# Altium schematic symbol library NeoObscura.SchLib: 11 symbols
Pins are listed as number, name and electrical type; pins without a type are passive.

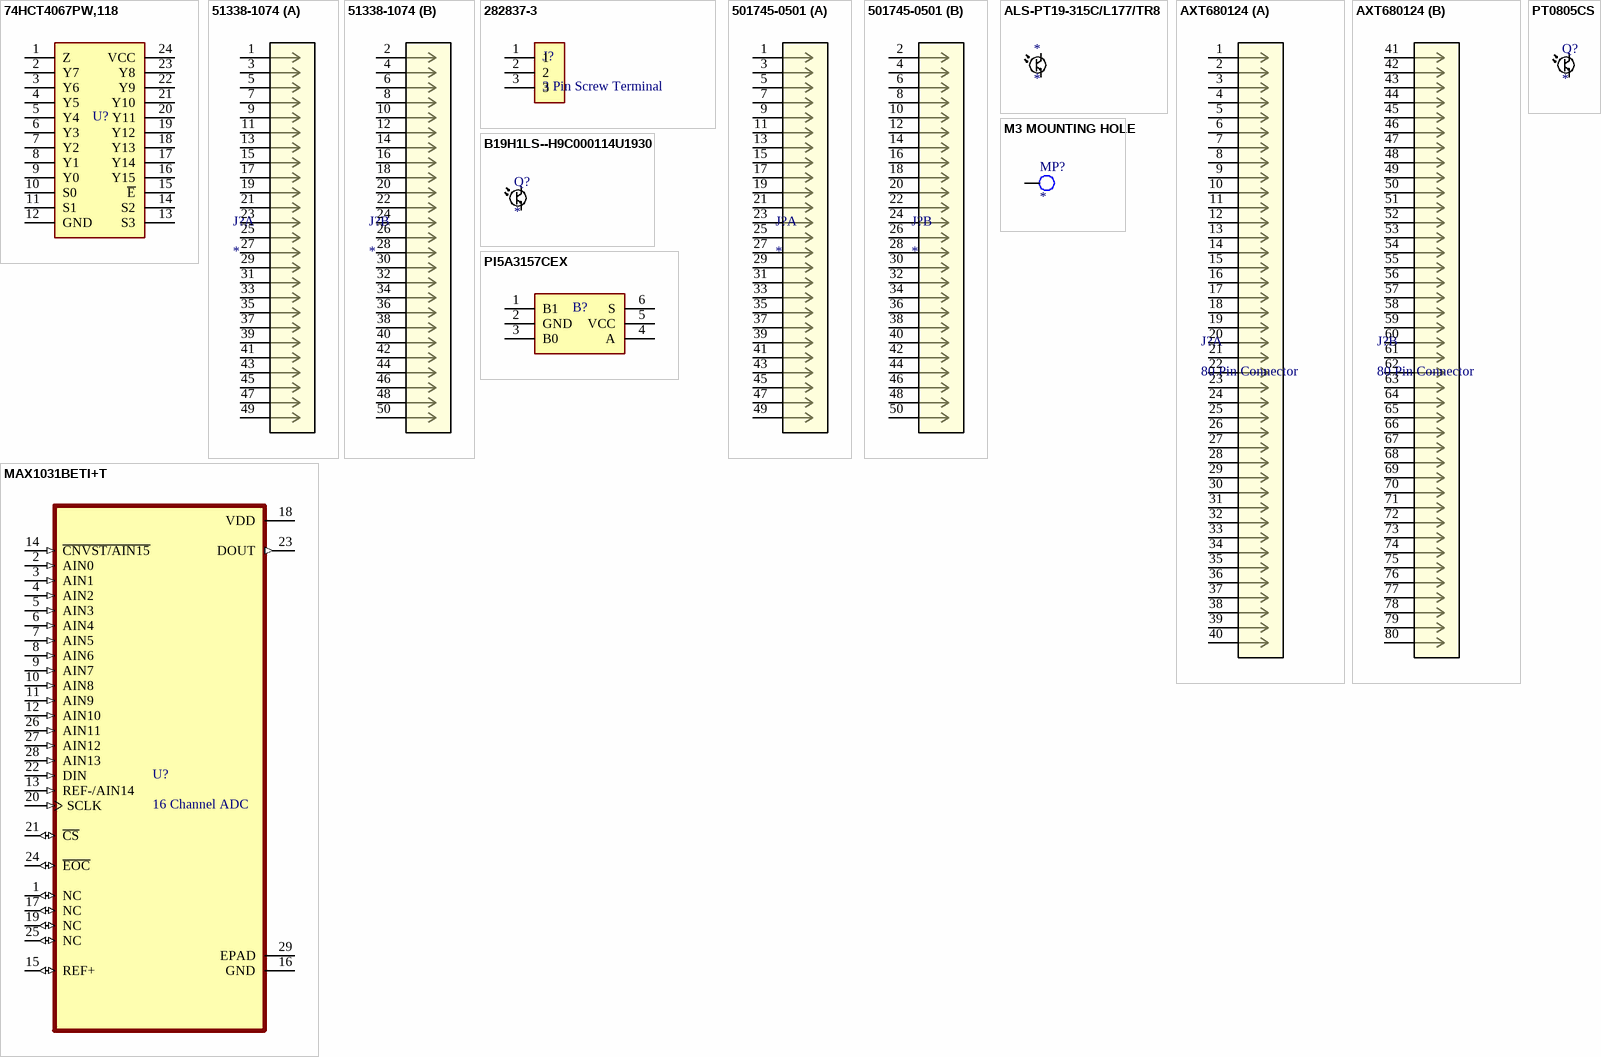
[diagram p0: symbols 74HCT4067PW,118 to PT0805CS]

## 74HCT4067PW,118
designator U?  (value not drawn)
Single-Ended Multiplexer, 1 Func, 16 Channel, CMOS, PDSO24; Manufacturer: Nexperia; Manufacturer Part Number: 74HCT4067PW,118; Package Body Material: Plastic; Number of Channels: 16; Channels: 1; Off-state Isolation-Nom: 50dB; On-state Resistance Match-Nom: 9R; On-state Resistance-Max (Ron): 180R; Max Supply Voltage: 5.5V; Min Supply Voltage: 4.5V; Switch-off Time-Max: 83ns; Switch-on Time-Max: 90ns; Time @ Peak Reflow Temperature-Max (s): 30s; Qualification Status: Not Qualified; Supplier: Newark; Supplier Part Number: 74AH2387; RoHS: Yes; Category: Decoders and Multiplexers; Stock: 925; Pricing: 1=1.56, 10=1.41, 25=1.34, 50=1.22, 100=1.1, 250=1.03, 500=0.903, 1000=0.712 (USD); Case/Package: TSSOP; Pins: 24; Package Shape: Rectangular; Terminal Finish: Nickel; Min Operating Temperature: -40°C; Max Operating Temperature: 125°C; JESD-609 Code: e4; Throw Configuration: SINGLE-ENDED MULTIPLEXER; JESD-30 Code: R-PDSO-G24; Moisture Sensitivity Level: 1; Package Style: SMALL OUTLINE, THIN PROFILE, SHRINK PITCHMeter; Peak Reflow Temperature (Cel): 260°C; Nominal Supply Voltage: 4.5V; Surface Mount: Yes; Technology: CMOS; Terminal Form: Gull Wing; Terminal Position: DUAL; Length: 7.8mm; Width: 4.4mm; Height - Seated (Max): 1.1mm; Terminal Pitch: 0.65mm; Temperature Grade: AUTOMOTIVE; Reach SVHC Compliant: Yes; RoHS Compliant: Yes; ComponentLink1URL: https://datasheet.ciiva.com:443/pdfs/VipMasterIC/IC/NEXP/NEXP-S-A0003513139/NEXP-S-A0003513139-1.pdf?src-supplier=IHS+Markit; ComponentLink1Description: https://datasheet.ciiva.com:443/pdfs/VipMasterIC/IC/NEXP/NEXP-S-A0003513139/NEXP-S-A0003513139-1.pdf?src-supplier=IHS+Markit
footprint 74HCT4067PW,118
pins: 1 Z, 2 Y7, 3 Y6, 4 Y5, 5 Y4, 6 Y3, 7 Y2, 8 Y1, 9 Y0, 10 S0, 11 S1, 12 GND, 13 S3, 14 S2, 15 ~{E}, 16 Y15, 17 Y14, 18 Y13, 19 Y12, 20 Y11, 21 Y10, 22 Y9, 23 Y8, 24 VCC

## 51338-1074
designator J?
Board Connector, 100 Contact(s), 2 Row(s), Female, Straight, 0.016 inch Pitch, Surface Mount Terminal, Locking, Black Insulator, Receptacle; Manufacturer: Molex; Manufacturer Part Number: 51338-1074; Option: General Purpose; Filter Feature: No; Mating Information: MULTIPLE MATING PARTS AVAILABLE; Number of Rows Loaded: 2; Number of Contacts: 100; Board Mounting Option: FITTING NAIL; Contact Pattern: RECTANGULAR; Contact Resistance: 40mR; Insulation Resistance: 100MR; Number Of Connectors: 1; Rated Current (Signal): 300mA; Body Breadth: 0.134inch; Body Depth: 0.053inch; Body Length: 0.909inch; Mating Contact Row Spacing: 0.043inch; PCB Contact Row Spacing: 1.4986mm; Reference Standard: UL; Reliability: COMMERCIAL; Supplier: Mouser; Supplier Part Number: 538-51338-1074; RoHS: Yes; Category: Headers and Wire Housings; Stock: 1434; Pricing: 1=3.42, 10=3.08, 50=3.08, 100=2.57, 500=2.56, 1000=2.27, 10000=2.27 (USD); Mounting Technology: Board; Contact Finish - Mating: GOLD; Contact Finish - Termination: GOLD; Insulation Color: Black; Insulation Material: Polymer; Min Operating Temperature: -25°C; Max Operating Temperature: 85°C; Connector Type: BOARD CONNECTOR; JESD-609 Code: e4; Contact Gender: Female; Mixed Contacts: No; Mounting Style: STRAIGHT; Termination: SMD/SMT; Body/Shell Style: RECEPTACLE; Number Of PCB Rows: 2; PCB Contact Pattern: RECTANGULAR; Terminal Pitch: 0.4mm; Mating Contact Pitch: 0.016inch; Mounting Option 1: LOCKING; Flammability Rating: UL94 V-0; DIN Conformance: No; IEC Conformance: No; MIL Conformance: No; Reach SVHC Compliant: Yes; RoHS Compliant: Yes; ComponentLink1URL: https://datasheet.ciiva.com:443/pdfs/VipMasterIC/IC/MOLE/MOLE-S-A0003536377/MOLE-S-A0003536377-1.pdf?src-supplier=IHS+Markit; ComponentLink1Description: https://datasheet.ciiva.com:443/pdfs/VipMasterIC/IC/MOLE/MOLE-S-A0003536377/MOLE-S-A0003536377-1.pdf?src-supplier=IHS+Markit; ComponentLink2URL: https://datasheet.ciiva.com/5129/0513381074-pcb-receptacles-149270-5129725.pdf?src-supplier=Mouser; ComponentLink2Description: https://datasheet.ciiva.com/5129/0513381074-pcb-receptacles-149270-5129725.pdf?src-supplier=Mouser; ComponentLink3URL: https://datasheet.ciiva.com/46409/1597556-46409754.pdf?src-supplier=Element14; ComponentLink3Description: https://datasheet.ciiva.com/46409/1597556-46409754.pdf?src-supplier=Element14
footprint 51338-1074
part A pins: 1, 3, 5, 7, 9, 11, 13, 15, 17, 19, 21, 23, 25, 27, 29, 31, 33, 35, 37, 39, 41, 43, 45, 47, 49
part B pins: 2, 4, 6, 8, 10, 12, 14, 16, 18, 20, 22, 24, 26, 28, 30, 32, 34, 36, 38, 40, 42, 44, 46, 48, 50

## 282837-3
designator J?, comment 3 Pin Screw Terminal
Modular Terminal Block, 13.5A, 1.5mm2, 1 Row(s), 1 Deck(s); Manufacturer: TE Connectivity; Manufacturer Part Number: 282837-3; Manufacturer Series: 282837; Number of Decks: 1; Number of Ways: 3; Voltage Rating: 300V; Wire/Cable Gauge: 15AWG; Safety Approval: UL; Supplier: Future Electronics; Supplier Part Number: 3579695; RoHS: Yes; Category: Terminal Blocks; Stock: 18400; Pricing: 1=0.68, 50=0.66, 200=0.625, 500=0.61, 2000=0.56 (USD); Mounting Technology: Board; Terminal and Terminal Block Type: MODULAR TERMINAL BLOCK; Fastening Method: SCREW; Number of Rows: 1; Current Rating: 13.5A; Wire Cross Section: 1.5mm2; RoHS Compliant: Yes; Reach SVHC Compliant: No; ComponentLink1URL: https://www.te.com:443/usa-en/product-282837-3.html?src-supplier=IHS+Markit; ComponentLink1Description: https://www.te.com:443/usa-en/product-282837-3.html?src-supplier=IHS+Markit; ComponentLink2URL: https://datasheet.ciiva.com/16305/eng-cs-1308389-eurostyle-terminal-blocks-0607-16305250.pdf?src-supplier=Future+Electronics; ComponentLink2Description: https://datasheet.ciiva.com/16305/eng-cs-1308389-eurostyle-terminal-blocks-0607-16305250.pdf?src-supplier=Future+Electronics; ComponentLink3URL: https://datasheet.ciiva.com/11758/0900766b80e7dc97-11758673.pdf?src-supplier=Rs; ComponentLink3Description: https://datasheet.ciiva.com/11758/0900766b80e7dc97-11758673.pdf?src-supplier=Rs; ComponentLink4URL: https://datasheet.ciiva.com/30149/eng-cs-1308389-eurostyle-terminal-blocks-0607-30149775.pdf?src-supplier=Onlinecomponents.com; ComponentLink4Description: https://datasheet.ciiva.com/30149/eng-cs-1308389-eurostyle-terminal-blocks-0607-30149775.pdf?src-supplier=Onlinecomponents.com; ComponentLink5URL: https://datasheet.ciiva.com/3141/eng-cs-1308389-eurostyle-terminal-blocks-0607-3141580.pdf?src-supplier=Avnet; ComponentLink5Description: https://datasheet.ciiva.com/3141/eng-cs-1308389-eurostyle-terminal-blocks-0607-3141580.pdf?src-supplier=Avnet; ComponentLink6URL: https://datasheet.ciiva.com/7978/1650926-7978570.pdf?src-supplier=Element14; ComponentLink6Description: https://datasheet.ciiva.com/7978/1650926-7978570.pdf?src-supplier=Element14; ComponentLink7URL: https://datasheet.ciiva.com/823/eng-cd-282837-g3-823447.pdf?src-supplier=Digi-Key; ComponentLink7Description: https://datasheet.ciiva.com/823/eng-cd-282837-g3-823447.pdf?src-supplier=Digi-Key; ComponentLink8URL: https://datasheet.ciiva.com/18620/eng-cd-282837-g3-18620919.pdf?src-supplier=Digi-Key; ComponentLink8Description: https://datasheet.ciiva.com/18620/eng-cd-282837-g3-18620919.pdf?src-supplier=Digi-Key
footprint TE_282837-3
pins: 1, 2, 3

## 501745-0501
designator J?
Board Connector, 50 Contact(s), 2 Row(s), Male, Straight, 0.016 inch Pitch, Surface Mount Terminal, Locking, Black Insulator, Plug; Manufacturer: Molex; Manufacturer Part Number: 501745-0501; Supplier: Arrow Electronics; Supplier Part Number: 501745-0501; RoHS: Yes; Category: Headers and Wire Housings; Stock: 14564; Pricing: 1=1.5127, 10=1.3668, 100=1.2034, 1000=1.0168, 2500=0.8155 (USD); Contact Finish - Mating: NOT SPECIFIED; Connector Type: BOARD CONNECTOR; Reach SVHC Compliant: Yes; RoHS Compliant: Yes; ComponentLink1URL: https://datasheet.ciiva.com/401/5017450401-sd-401812.pdf?src-supplier=Digi-Key; ComponentLink1Description: https://datasheet.ciiva.com/401/5017450401-sd-401812.pdf?src-supplier=Digi-Key; ComponentLink2URL: https://datasheet.ciiva.com/5130/5017450501-pcb-headers-155391-5130000.pdf?src-supplier=Mouser; ComponentLink2Description: https://datasheet.ciiva.com/5130/5017450501-pcb-headers-155391-5130000.pdf?src-supplier=Mouser; ComponentLink3URL: https://datasheet.ciiva.com/10071/5017450501-pcb-headers-10071686.pdf?src-supplier=Avnet; ComponentLink3Description: https://datasheet.ciiva.com/10071/5017450501-pcb-headers-10071686.pdf?src-supplier=Avnet
footprint 501745-0501
part A pins: 1, 3, 5, 7, 9, 11, 13, 15, 17, 19, 21, 23, 25, 27, 29, 31, 33, 35, 37, 39, 41, 43, 45, 47, 49
part B pins: 2, 4, 6, 8, 10, 12, 14, 16, 18, 20, 22, 24, 26, 28, 30, 32, 34, 36, 38, 40, 42, 44, 46, 48, 50

## ALS-PT19-315C/L177/TR8
designator *
Ambient Light Sensor Phototransistor Chip 630nm 2-Pin SMD T/R; Manufacturer: Everlight; Manufacturer Part Number: ALS-PT19-315C/L177/TR8; Rise Time: 0.11ms; Fall Time: 0.22ms; Lens Style: Flat; Collector Emitter Breakdown Voltage: 5.5V; Polarity: NPN; Number of Elements: 1; Dark Current: 100nA; Supplier: Arrow Electronics; Supplier Part Number: ALS-PT19-315C/L177/TR8; RoHS: Yes; Category: Sensors; Stock: 48000; Pricing: 4000=0.1878, 8000=0.1774, 12000=0.1738, 20000=0.1697, 28000=0.1633 (USD); Mounting Technology: Surface Mount; Case/Package: SMD/SMT; Pins: 2; Min Operating Temperature: -40°C; Max Operating Temperature: 85°C; Wavelength: 630nm; Packaging: Tape and Reel; Package Quantity: 1; Series: -; Max Breakdown Voltage: 5.5V; Radiation Hardening: No; RoHS Compliant: Yes; ComponentLink1URL: https://datasheet.ciiva.com/12092/als-pt19-315c-l177-tr-datasheet-34741-12092024.pdf?src-supplier=Mouser; ComponentLink1Description: https://datasheet.ciiva.com/12092/als-pt19-315c-l177-tr-datasheet-34741-12092024.pdf?src-supplier=Mouser; ComponentLink2URL: https://datasheet.ciiva.com/4270/alspt19315cl177-tr8-1810-4270796.pdf?src-supplier=Arrow+Electronics; ComponentLink2Description: https://datasheet.ciiva.com/4270/alspt19315cl177-tr8-1810-4270796.pdf?src-supplier=Arrow+Electronics
footprint 0805 Phototransistor
pins: C, E

## AXT680124
designator J?, comment 80 Pin Connector
Connector Board Stacker Header 80Position 1mm Stack Height 0.4mm Solder Straight Surface Mount Emboss T/R; Manufacturer: Panasonic; Manufacturer Part Number: AXT680124A; Number of Positions: 80; Pitch: 0.016inch; Supplier: Digi-Key; Supplier Part Number: 255-5639-ND; RoHS: Yes; Category: Connectors; Stock: 267; Pricing: 1=2.6, 10=2.267, 25=2.1704, 50=2.1222, 100=2.0257, 250=1.83272, 500=1.68804, 1000=1.4469, 2500=1.35044 (USD); Mounting Technology: Surface Mount; Contact Plating: Gold; Package Quantity: 500; Packaging: Tape and Reel; Number of Rows: 2; Mated Stacking Heights: 1mm; ComponentLink1URL: http://www3.panasonic.biz/ac/e_download/control/connector/base-fpc/catalog/con_eng_f4s.pdf?src-supplier=Digi-Key; ComponentLink1Description: http://www3.panasonic.biz/ac/e_download/control/connector/base-fpc/catalog/con_eng_f4s.pdf?src-supplier=Digi-Key
footprint AXT680124
part A pins: 1, 2, 3, 4, 5, 6, 7, 8, 9, 10, 11, 12, 13, 14, 15, 16, 17, 18, 19, 20, 21, 22, 23, 24, 25, 26, 27, 28, 29, 30, 31, 32, 33, 34, 35, 36, 37, 38, 39, 40
part B pins: 41, 42, 43, 44, 45, 46, 47, 48, 49, 50, 51, 52, 53, 54, 55, 56, 57, 58, 59, 60, 61, 62, 63, 64, 65, 66, 67, 68, 69, 70, 71, 72, 73, 74, 75, 76, 77, 78, 79, 80

## B19H1LS--H9C000114U1930
designator Q?
1.6(L)X0.8(W)X0.88(H) Mm Light S; Manufacturer: Inolux; Manufacturer Part Number: B19H1LS--H9C000114U1930; Supplier: Digi-Key; Supplier Part Number: 3147-B19H1LS--H9C000114U1930CT-ND; RoHS: No; Category: Uncategorized
footprint 0805 Phototransistor
pins: C, E

## M3 MOUNTING HOLE
designator MP?
footprint M3 MOUNTING HOLE
pins: 1

## MAX1031BETI+T
designator U?, comment 16 Channel ADC
ADC, Successive Approximation, 10-Bit, 1 Func, 16 Channel, Serial Access, BICMOS; Manufacturer: Maxim; Manufacturer Part Number: MAX1031BETI+T; Max Input Voltage (AC): 1.26V; Min Input Voltage (AC): -1.24V; Linearity Error-Max (EL): 0.0977%; Number of Analog In Channels: 16; Number of Bits: 10; Channels: 1; Output Bit Code: BINARY, 2''S COMPLEMENT BINARY; Power Supplies: 3/3.3V; Sample Rate (Hz): 300kHz; Sample-and-Hold/Track-and-Hold: TRACK; Conversion Time-Max: 3.5us; Nominal Supply Voltage: 2.7V; Time @ Peak Reflow Temperature-Max (s): 30s; Qualification Status: Not Qualified; Supplier: Digi-Key; Supplier Part Number: MAX1031BETI+T-ND; RoHS: Yes; Category: Analog to Digital Converters (ADCs); Pricing: 2500=12.50138 (USD); Case/Package: HVQCCN; Pins: 28; Package Shape: Square; Terminal Finish: Tin; Min Operating Temperature: -40°C; Max Operating Temperature: 85°C; JESD-609 Code: e3; Output Format: Serial; Converter Type: SUCCESSIVE APPROXIMATION; Moisture Sensitivity Level: 1; Package Style: CHIP CARRIER, HEAT SINK/SLUG, VERY THIN PROFILEMeter; Peak Reflow Temperature (Cel): 260°C; Surface Mount: Yes; Technology: BICMOS; Terminal Form: No Lead; Terminal Position: QUAD; Length: 5mm; Width: 5mm; Height - Seated (Max): 0.8mm; Terminal Pitch: 0.5mm; Temperature Grade: INDUSTRIAL; Reach SVHC Compliant: Yes; RoHS Compliant: Yes; ComponentLink1URL: https://datasheet.ciiva.com:443/pdfs/VipMasterIC/IC/MAXM/MAXMS12063/MAXMS12063-1.pdf?src-supplier=IHS+Markit; ComponentLink1Description: https://datasheet.ciiva.com:443/pdfs/VipMasterIC/IC/MAXM/MAXMS12063/MAXMS12063-1.pdf?src-supplier=IHS+Markit; ComponentLink2URL: https://datasheet.ciiva.com/1317/max1027-max1031-1317413.pdf?src-supplier=Digi-Key; ComponentLink2Description: https://datasheet.ciiva.com/1317/max1027-max1031-1317413.pdf?src-supplier=Digi-Key; ComponentLink3URL: https://datasheet.ciiva.com/13060/max1027-max1031-94739-13060424.pdf?src-supplier=Mouser; ComponentLink3Description: https://datasheet.ciiva.com/13060/max1027-max1031-94739-13060424.pdf?src-supplier=Mouser
footprint QFN50P500X500X80-29N
pins: 1 NC (io), 2 AIN0 (in), 3 AIN1 (in), 4 AIN2 (in), 5 AIN3 (in), 6 AIN4 (in), 7 AIN5 (in), 8 AIN6 (in), 9 AIN7 (in), 10 AIN8 (in), 11 AIN9 (in), 12 AIN10 (in), 13 REF-/AIN14 (in), 14 ~{CNVST/AIN15} (in), 15 REF+ (io), 16 GND (power), 17 NC (io), 18 VDD (power), 19 NC (io), 20 SCLK (in), 21 ~{CS} (io), 22 DIN (in), 23 DOUT (out), 24 ~{EOC} (io), 25 NC (io), 26 AIN11 (in), 27 AIN12 (in), 28 AIN13 (in), 29 EPAD (power)

## PI5A3157CEX
designator B?  (value not drawn)
Single-Ended Multiplexer, 1 Func, 1 Channel, CMOS, PDSO6; Manufacturer: Diodes; Manufacturer Part Number: PI5A3157CEX; Package Body Material: Plastic; Normal Position: NCV; Number of Channels: 1; Off-state Isolation-Nom: 57dB; On-state Resistance Match-Nom: 300mR; On-state Resistance-Max (Ron): 24R; Package Equivalence Code: TSSOP6,.08; Power Supplies: 1.8/5V; Max Supply Voltage: 5.5V; Min Supply Voltage: 1.65V; Nominal Supply Voltage: 2.3V; Switching: BREAK-BEFORE-MAKEV; Switch-off Time-Max: 7ns; Switch-on Time-Max: 13ns; Time @ Peak Reflow Temperature-Max (s): 40s; Qualification Status: Not Qualified; Supplier: Arrow Electronics; Supplier Part Number: PI5A3157CEX; RoHS: Yes; Category: Interface ICs; Stock: 3440; Pricing: 1=0.2928, 10=0.2395, 25=0.2244, 100=0.167, 250=0.1565, 500=0.1313 (USD); Case/Package: TSSOP; Pins: 6; Package Shape: Rectangular; Terminal Finish: Tin; Min Operating Temperature: -40°C; Max Operating Temperature: 85°C; JESD-609 Code: e3; Throw Configuration: SINGLE-ENDED MULTIPLEXER; JESD-30 Code: R-PDSO-G6; Moisture Sensitivity Level: 1; Channels: 1; Package Style: SMALL OUTLINE, THIN PROFILE, SHRINK PITCHMeter; Peak Reflow Temperature (Cel): 260°C; Surface Mount: Yes; Technology: CMOS; Terminal Form: Gull Wing; Terminal Position: DUAL; Length: 2mm; Width: 1.25mm; Height - Seated (Max): 1.1mm; Terminal Pitch: 0.65mm; Temperature Grade: INDUSTRIAL; Reach SVHC Compliant: Yes; RoHS Compliant: Yes; ComponentLink1URL: https://datasheet.ciiva.com:443/pdfs/VipMasterIC/IC/DIOD/DIOD-S-A0006644034/DIOD-S-A0006644034-1.pdf?src-supplier=IHS+Markit; ComponentLink1Description: https://datasheet.ciiva.com:443/pdfs/VipMasterIC/IC/DIOD/DIOD-S-A0006644034/DIOD-S-A0006644034-1.pdf?src-supplier=IHS+Markit; ComponentLink2URL: https://datasheet.ciiva.com/6638/pi5a3157-6638698.pdf?src-supplier=Digi-Key; ComponentLink2Description: https://datasheet.ciiva.com/6638/pi5a3157-6638698.pdf?src-supplier=Digi-Key; ComponentLink3URL: https://datasheet.ciiva.com/11580/pi5a3157-11580686.pdf?src-supplier=Avnet; ComponentLink3Description: https://datasheet.ciiva.com/11580/pi5a3157-11580686.pdf?src-supplier=Avnet; ComponentLink4URL: https://datasheet.ciiva.com/16479/pi5a3157-16479197.pdf?src-supplier=Future+Electronics; ComponentLink4Description: https://datasheet.ciiva.com/16479/pi5a3157-16479197.pdf?src-supplier=Future+Electronics
footprint PI5A3157CEX
pins: 1 B1, 2 GND, 3 B0, 4 A, 5 VCC, 6 S

## PT0805CS
designator Q?
Phototransistor
footprint 0805 Phototransistor
pins: C, E